# Altium schematic symbol library SN65ELT22.SchLib: 1 symbol
Pins are listed as number, name and electrical type; pins without a type are passive.

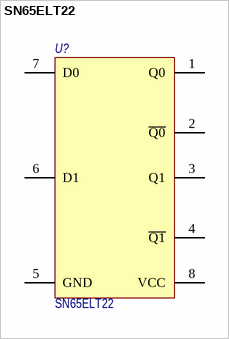
[diagram p0: symbol SN65ELT22]

## SN65ELT22
designator U?
Dual LVTTL to DIfferential LVPECL Translator; Потребление: 0,1; Назначение: Dual LVTTL to DIfferential LVPECL Translator; Наименование: SN65ELT22
footprint SOIC-8
footprint VSSOP-8 (Small Outline Package, 8-pin, 3x3mm, 1.1mm height)
pins: 1 Q0, 2 ~{Q0}, 3 Q1, 4 ~{Q1}, 5 GND, 6 D1, 7 D0, 8 VCC